# Altium footprint library PcbLib_IC.PcbLib: 42 footprints (part 2 of 3)
Each footprint in its own frame and in the unit in brackets; x right, y up, seen from the top. Pads: shape width x height; smd on the part's side, far side on the other; paste and mask are expansions set on the pad; w line width, h text height; cw(c..) or ccw(c..) is an arc to the next point about the centre after c.
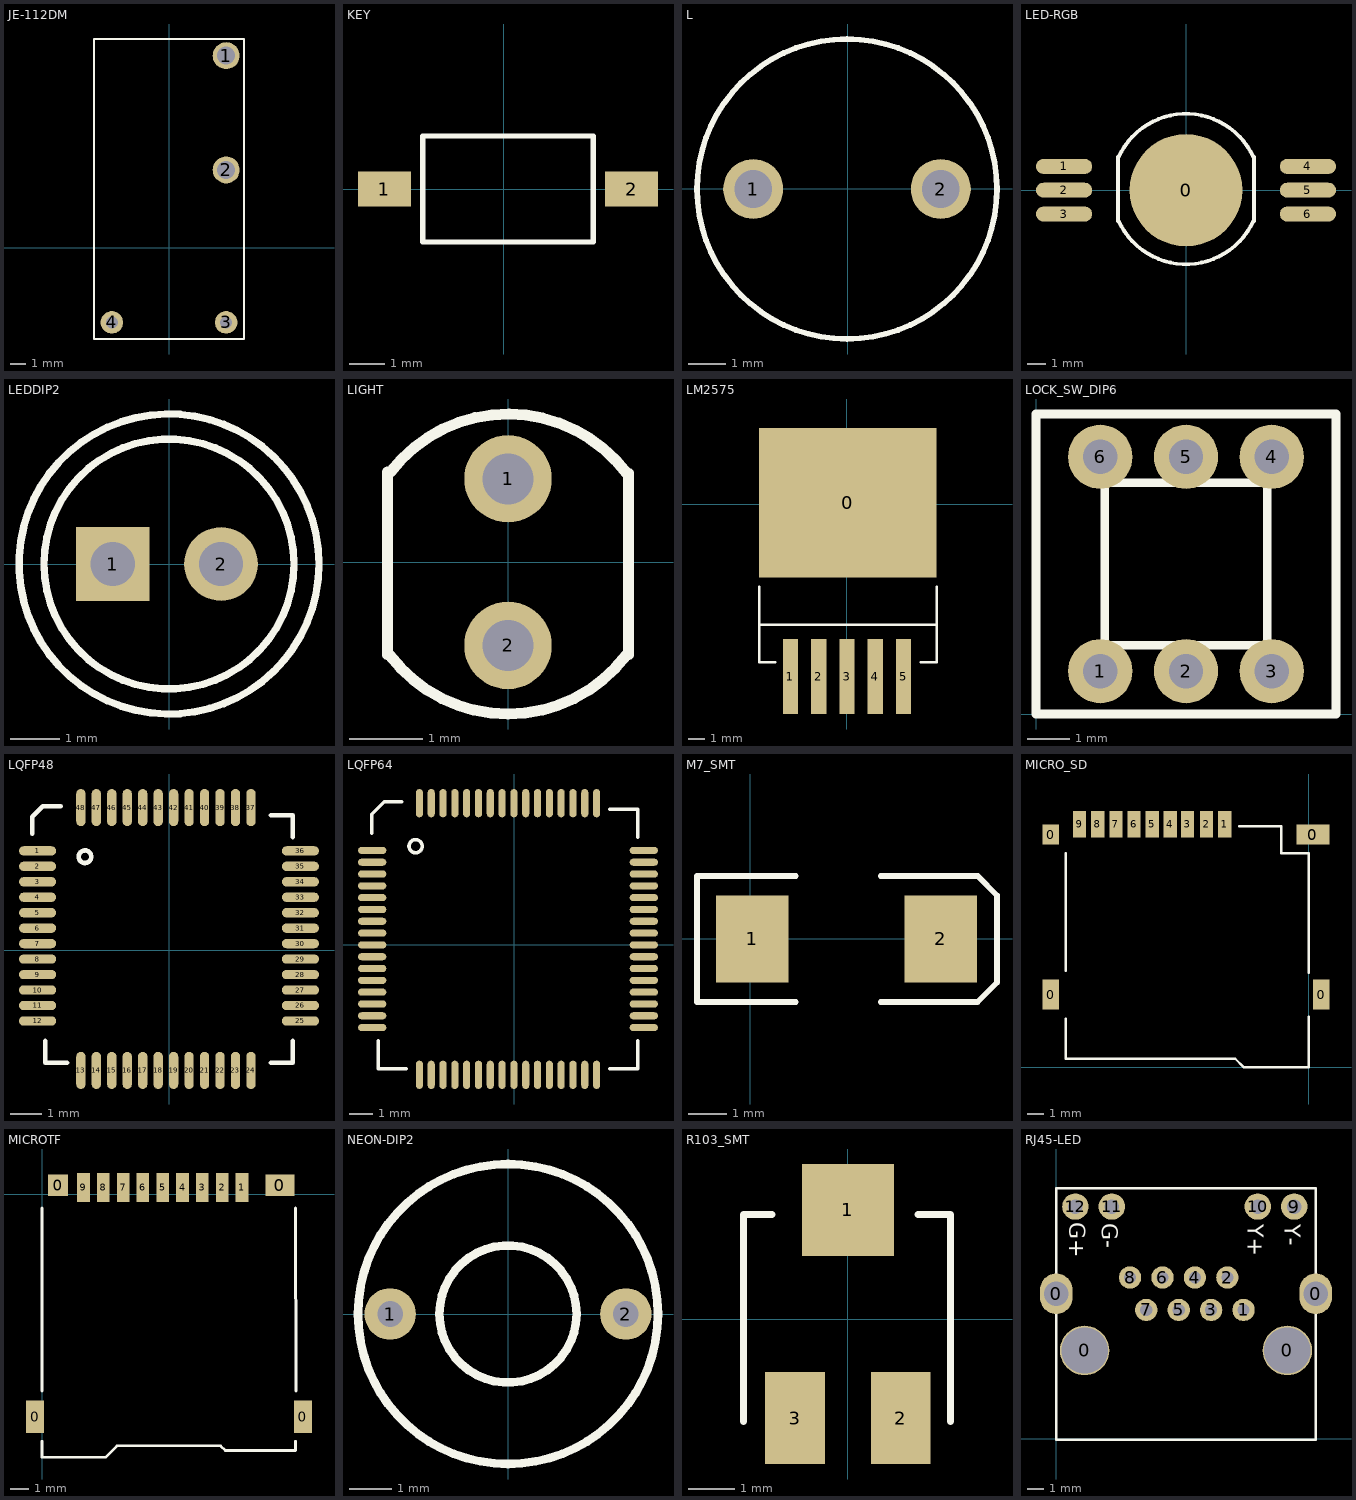
[diagram p1: the footprints below, top view; thin cyan lines are the x and y axes]

## JE-112DM [mm]
pads (4):
  round 1.8 hole 1.2: 1(3.804,12.815) 2(3.804,5.195)
  round 1.5 hole 0.8: 3(3.804,-4.965) 4(-3.816,-4.965)
Top Overlay:
  lines w0.15: -5.006,-6.075 -5.006,13.925 4.994,13.925 4.994,-6.075 -5.006,-6.075

## KEY [mm]
pads (2):
  rect 1.5x1 smd: 1(-3.373,0) 2(3.627,0)
Top Overlay:
  lines w0.15: -2.286,-1.5 2.54,-1.5 2.54,1.5 -2.286,1.5 -2.286,-1.5

## L [mm]
pads (2):
  round 1.6 hole 1: 1(-2.521,-0.012) 2(2.479,-0.012)
Top Overlay:
  circle w0.15: c-0.021,-0.012 r4

## LED-RGB [mm]
pads (7):
  round 6 smd: 0(0,0)
  oval 3x0.8 smd: 1(-6.5,1.27) 2(-6.5,0) 3(-6.5,-1.27) 4(6.5,1.27) 5(6.5,0) 6(6.5,-1.27)
Top Overlay:
  circle w0.2: c0,0 r2.8
  lines w0.2: -3.62,-1.651 -3.62,1.778 ; -3.595,-1.64 ccw(c0,0) 3.595,-1.64 ; -3.595,1.767 cw(c0,0.127) 3.595,1.767 ; 3.62,-1.651 3.62,1.778

## LEDDIP2 [mm]
pads (2):
  rect 1.5x1.5 hole 0.9: 1(-1.143,0)
  round 1.5 hole 0.9: 2(1.057,0)
Top Overlay:
  circle w0.15: c0,0 r2.54
  circle w0.15: c0,0 r3.048

## LIGHT [mm]
pads (2):
  round 1.2 hole 0.7: 1(0,1.143) 2(0,-1.143)
Top Overlay:
  lines w0.15: -1.651,-1.27 -1.651,1.239 ; -1.626,-1.27 ccw(c0,-0.051) 1.626,-1.27 ; -1.611,1.239 cw(c0,0) 1.626,1.219 ; 1.651,-1.27 1.651,1.219

## LM2575 [mm]
pads (6):
  rect 10.668x9 smd: 0(0.063,0.092)
  rect 0.91x4.5 smd: 1(-3.388,-10.374) 2(-1.688,-10.374) 3(0.012,-10.374) 4(1.712,-10.374) 5(3.412,-10.374)
Top Overlay:
  lines w0.15: -5.267,-4.953 -5.267,-7.25 ; -4.318,-9.504 -5.267,-9.504 -5.267,-7.25 ; 4.445,-9.504 5.401,-9.504 5.401,-7.25 ; 5.401,-4.953 5.401,-7.25 ; -5.267,-7.25 5.401,-7.25

## LOCK_SW_DIP6 [mm]
pads (6):
  round 1.5 hole 0.8: 1(1.5,1) 2(3.5,1) 3(5.5,1) 4(5.5,6) 5(3.5,6) 6(1.5,6)
Top Overlay:
  lines w0.2: 0,0 7,0 7,7 0,7 0,0 ; 1.6,1.6 5.4,1.6 5.4,5.4 1.6,5.4 1.6,1.6

## LQFP48 [mm]
pads (48):
  oval 1.2x0.3 smd: 1(-4.25,3.22) 2(-4.25,2.72) 3(-4.25,2.22) 4(-4.25,1.72) 5(-4.25,1.22) 6(-4.25,0.72) 7(-4.25,0.22) 8(-4.25,-0.28) 9(-4.25,-0.78) 10(-4.25,-1.28) 11(-4.25,-1.78) 12(-4.25,-2.28) 25(4.25,-2.28) 26(4.25,-1.78) 27(4.25,-1.28) 28(4.25,-0.78) 29(4.25,-0.28) 30(4.25,0.22) 31(4.25,0.72) 32(4.25,1.22) 33(4.25,1.72) 34(4.25,2.22) 35(4.25,2.72) 36(4.25,3.22)
  oval 0.3x1.2 smd: 13(-2.85,-3.88) 14(-2.35,-3.88) 15(-1.85,-3.88) 16(-1.35,-3.88) 17(-0.85,-3.88) 18(-0.35,-3.88) 19(0.15,-3.88) 20(0.65,-3.88) 21(1.15,-3.88) 22(1.65,-3.88) 23(2.15,-3.88) 24(2.65,-3.88) 37(2.65,4.62) 38(2.15,4.62) 39(1.65,4.62) 40(1.15,4.62) 41(0.65,4.62) 42(0.15,4.62) 43(-0.35,4.62) 44(-0.85,4.62) 45(-1.35,4.62) 46(-1.85,4.62) 47(-2.35,4.62) 48(-2.85,4.62)
Top Overlay:
  circle w0.15: c-2.718,3.03 r0.204
  lines w0.15: -4.42,3.773 -4.42,4.328 -4.085,4.662 -3.505,4.662 ; -4,-2.93 -4,-3.63 -3.3,-3.63 ; 3.3,-3.63 4,-3.63 4,-2.93 ; 3.3,4.37 4,4.37 4,3.67

## LQFP64 [mm]
pads (64):
  oval 1.2x0.3 smd: 1(-6.004,3.993) 2(-6.004,3.493) 3(-6.004,2.993) 4(-6.004,2.493) 5(-6.004,1.993) 6(-6.004,1.493) 7(-6.004,0.993) 8(-6.004,0.493) 9(-6.004,-0.007) 10(-6.004,-0.507) 11(-6.004,-1.007) 12(-6.004,-1.507) 13(-6.004,-2.007) 14(-6.004,-2.507) 15(-6.004,-3.007) 16(-6.004,-3.507) 33(5.496,-3.507) 34(5.496,-3.007) 35(5.496,-2.507) 36(5.496,-2.007) 37(5.496,-1.507) 38(5.496,-1.007) 39(5.496,-0.507) 40(5.496,-0.007) 41(5.496,0.493) 42(5.496,0.993) 43(5.496,1.493) 44(5.496,1.993) 45(5.496,2.493) 46(5.496,2.993) 47(5.496,3.493) 48(5.496,3.993)
  oval 0.3x1.2 smd: 17(-4.004,-5.507) 18(-3.504,-5.507) 19(-3.004,-5.507) 20(-2.504,-5.507) 21(-2.004,-5.507) 22(-1.504,-5.507) 23(-1.004,-5.507) 24(-0.504,-5.507) 25(-0.004,-5.507) 26(0.496,-5.507) 27(0.996,-5.507) 28(1.496,-5.507) 29(1.996,-5.507) 30(2.496,-5.507) 31(2.996,-5.507) 32(3.496,-5.507) 49(3.496,5.993) 50(2.996,5.993) 51(2.496,5.993) 52(1.996,5.993) 53(1.496,5.993) 54(0.996,5.993) 55(0.496,5.993) 56(-0.004,5.993) 57(-0.504,5.993) 58(-1.004,5.993) 59(-1.504,5.993) 60(-2.004,5.993) 61(-2.504,5.993) 62(-3.004,5.993) 63(-3.504,5.993) 64(-4.004,5.993)
Top Overlay:
  circle w0.15: c-4.166,4.172 r0.28
  lines w0.15: -6.02,4.713 -6.02,5.526 -5.487,6.059 -4.754,6.059 ; -5.754,-4.057 -5.754,-5.257 -4.554,-5.257 ; 4.046,-5.257 5.246,-5.257 5.246,-4.057 ; 4.046,5.743 5.246,5.743 5.246,4.543

## M7_SMT [mil]
height 118.11
pads (2):
  rect 75x90 smd: 1(2.02,0) 2(197.02,0)
Top Overlay:
  lines w5.91: 47.02,-65.1 -55,-65.1 -55,64.9 47.02,64.9 ; 135,-65.1 234.9,-65.1 255,-45 255,45 235.1,64.9 135,64.9

## MICRO_SD [mm]
pads (13):
  rect 1x1.8 smd: 0(-15.621,4.4) 0(0.762,4.4)
  rect 1x1.2 smd: 0(-15.621,14.097)
  rect 2x1.2 smd: 0(0.254,14.097)
  rect 0.8x1.6 smd: 1(-5.08,14.732) 2(-6.18,14.732) 3(-7.33,14.732) 4(-8.38,14.732) 5(-9.48,14.732) 6(-10.58,14.732) 7(-11.68,14.732) 8(-12.78,14.732) 9(-13.88,14.732)
Top Overlay:
  lines w0.15: -14.732,2.921 -14.732,0.508 -10.009,0.508 -4.445,0.508 -3.937,0 0,0 0,3.048 ; -14.732,5.842 -14.732,12.954 ; -4.191,14.605 -1.651,14.605 -1.651,12.954 0,12.954 0,5.715

## MICROTF [mm]
pads (13):
  rect 1x1.8 smd: 0(-0.381,-12.35) 0(14.478,-12.35)
  rect 1.1x1.2 smd: 0(0.889,0.508)
  rect 1.6x1.2 smd: 0(13.208,0.508)
  rect 0.7x1.6 smd: 1(11.1,0.381) 2(10,0.381) 3(8.9,0.381) 4(7.8,0.381) 5(6.7,0.381) 6(5.6,0.381) 7(4.5,0.381) 8(3.4,0.381) 9(2.3,0.381)
Top Overlay:
  lines w0.15: 0,-13.716 0,-14.605 3.518,-14.605 4.153,-13.97 9.92,-13.97 10.174,-14.224 14.073,-14.224 14.073,-13.716 ; 0,-10.922 0,-0.762 ; 14.073,-0.762 14.097,-10.922

## NEON-DIP2 [mm]
pads (2):
  round 1.2 hole 0.6: 1(-2.75,0) 2(2.75,0)
Top Overlay:
  circle w0.2: c0,0 r1.6
  circle w0.2: c0,0 r3.5

## R103_SMT [mm]
pads (3):
  rect 2x2 smd: 1(0.003,2.376)
  rect 1.3x2 smd: 2(1.153,-2.146) 3(-1.147,-2.146)
Top Overlay:
  lines w0.15: -2.268,-2.226 -2.268,2.274 -1.651,2.274 ; 1.524,2.274 2.232,2.274 2.232,-2.226

## RJ45-LED [mil]
pads (16):
  oval 80x100 hole 60: 0(0.44,357.49) 0(640.44,357.49)
  round 122.05 hole 114.17 unplated: 0(70.44,217.49) 0(570.44,217.49)
  round 55 hole 30: 1(462.44,317.49) 2(422.44,397.49) 3(382.44,317.49) 4(342.44,397.49) 5(302.44,317.49) 6(262.44,397.49) 7(222.44,317.49) 8(182.44,397.49)
  round 65 hole 36: 9(587.44,572.49) 10(497.44,572.49) 11(137.44,572.49) 12(47.44,572.49)
Top Overlay:
  lines w5.91: 0.44,-2.51 0.44,617.49 640.44,617.49 640.44,-2.51 0.44,-2.51
  text "Y-" at 564.44,529.49 h40
  text "Y+" at 472.44,529.49 h40
  text "G-" at 112.44,531.49 h40
  text "G+" at 32.44,533.49 h40